# EAGLE library part FI212C245072-T (library Bluetunes)
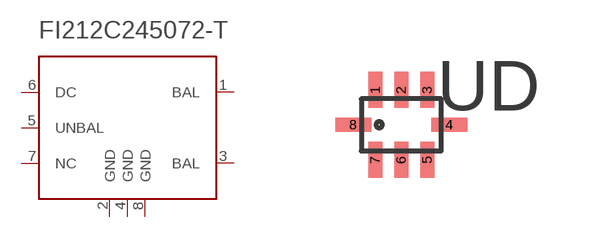
[diagram p1: symbol with the pads of FI212C; footprint FI212C]

Designator prefix -

## FI212C245072-T  [FI212C]
1  BAL
2  GND
3  BAL
4  GND
5  UNBAL
6  DC
7  NC  nc
8  GND

## Footprint FI212C (pad centres in mm)
smd 0.35 x 0.9: 1 -0.65,0.875; 2 0,0.875; 3 0.65,0.875; 5 0.65,-0.875; 6 0,-0.875; 7 -0.65,-0.875
smd 0.9 x 0.35: 4 1.2,0; 8 -1.2,0